# Altium schematic symbol library LM27761DSGR.SchLib: 1 symbol
Pins are listed as number, name and electrical type; pins without a type are passive.

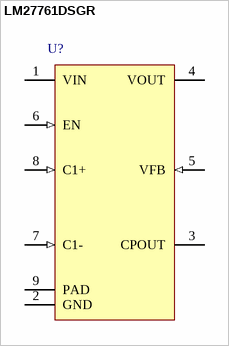
[diagram p0: symbol LM27761DSGR]

## LM27761DSGR
designator U?
pins: 1 VIN (power), 2 GND (power), 3 CPOUT (power), 4 VOUT (power), 5 VFB (in), 6 EN (in), 7 C1- (in), 8 C1+ (in), 9 PAD (power)